# EAGLE library part ARDUINOPROMICRO (library arduino_pro_micro)
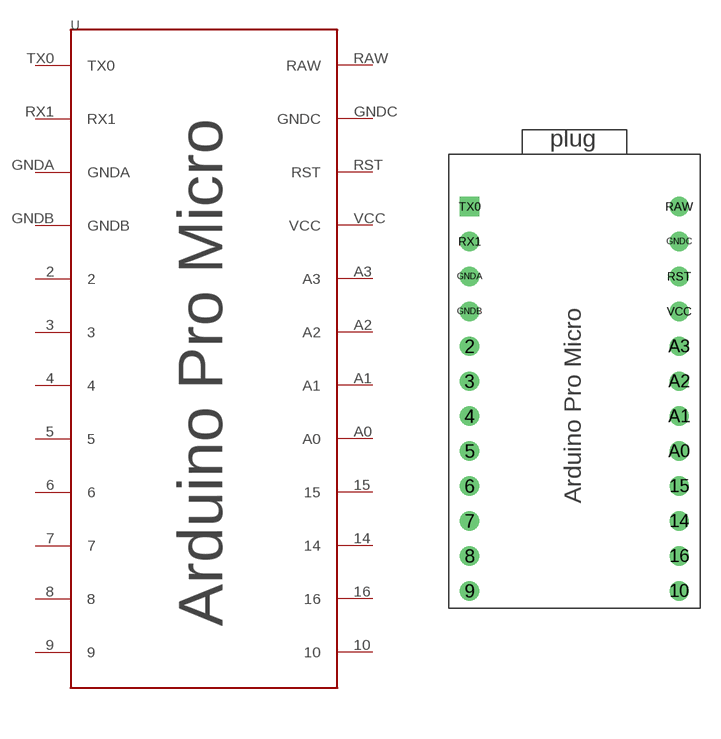
[diagram p0: symbol with the pads of ARDUINO_PRO_MICRO; footprint ARDUINO_PRO_MICRO]

Designator prefix -

## ARDUINOPROMICRO  [ARDUINO_PRO_MICRO]
2  2
3  3
4  4
5  5
6  6
7  7
8  8
9  9
10  10
14  14
15  15
16  16
A0  A0
A1  A1
A2  A2
A3  A3
GNDA  GNDA
GNDB  GNDB
GNDC  GNDC
RAW  RAW
RST  RST
RX1  RX1
TX0  TX0
VCC  VCC

## Footprint ARDUINO_PRO_MICRO (pad centres in mm)
drill 0.9: 2 0,-10.16; 3 0,-12.7; 4 0,-15.24; 5 0,-17.78; 6 0,-20.32; 7 0,-22.86; 8 0,-25.4; 9 0,-27.94; 10 15.24,-27.94; 14 15.24,-22.86; 15 15.24,-20.32; 16 15.24,-25.4; A0 15.24,-17.78; A1 15.24,-15.24; A2 15.24,-12.7; A3 15.24,-10.16; GNDA 0,-5.08; GNDB 0,-7.62; GNDC 15.24,-2.54; RAW 15.24,0; RST 15.24,-5.08; RX1 0,-2.54; VCC 15.24,-7.62
drill 0.9 square: TX0 0,0